# Altium integrated library ERF8-020-XX.X-X-DV.IntLib: 1 symbol
Pins are listed as number, name and electrical type; pins without a type are passive.

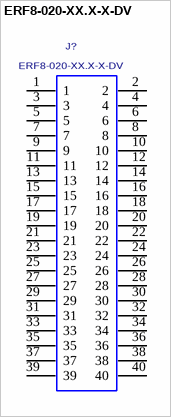
[diagram p0: symbol ERF8-020-XX.X-X-DV]

## ERF8-020-XX.X-X-DV
designator J?
0.8mm Socket Assembly, Double Vertical Row, 20 Positions Per Row.; MANUFACTURER: SAMTEC; CREATED: July 2, 2014 - Wendy Xin; PCB DECAL: ERF8-020-XX.X-X-DV
footprint ERF8-020-XX.X-X-DV
pins: 1, 2, 3, 4, 5, 6, 7, 8, 9, 10, 11, 12, 13, 14, 15, 16, 17, 18, 19, 20, 21, 22, 23, 24, 25, 26, 27, 28, 29, 30, 31, 32, 33, 34, 35, 36, 37, 38, 39, 40